# Altium footprint library MAX232DR.PcbLib: 2 footprints
Each footprint in its own frame and in the unit in brackets; x right, y up, seen from the top. Pads: shape width x height; smd on the part's side, far side on the other; paste and mask are expansions set on the pad; w line width, h text height; cw(c..) or ccw(c..) is an arc to the next point about the centre after c.
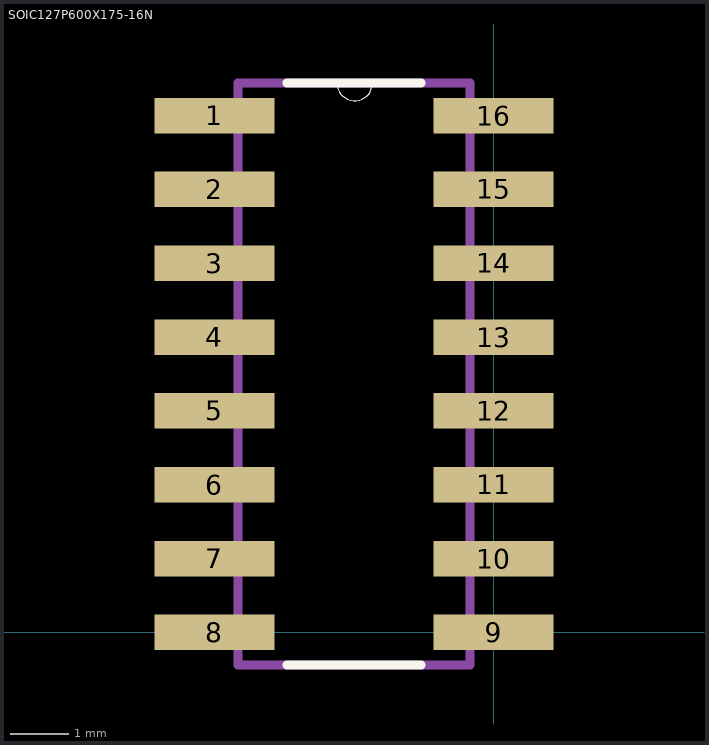
[diagram p0: the footprints below, top view; thin cyan lines are the x and y axes]

## PCBComponent_1 [mil]

## SOIC127P600X175-16N [mil]
pads (16):
  rect 81x24 smd: 1(-189,350) 2(-189,300) 3(-189,250) 4(-189,200) 5(-189,150) 6(-189,100) 7(-189,50) 8(-189,0) 9(0,0) 10(0,50) 11(0,100) 12(0,150) 13(0,200) 14(0,250) 15(0,300) 16(0,350)
Top Overlay:
  lines w0: -106,372 ccw(c-94,372) -82,372
  lines w6: -140,-22 -49,-22 ; -140,372 -106,372 -82,372 -49,372
Mechanical 4:
  lines w0: -106,372 ccw(c-94,372) -82,372 cw(c-94,372) -106,372
  lines w6: -173,-22 -173,372 ; -173,-22 -16,-22 ; -173,-22 -173,372 ; -173,-22 -16,-22 ; -173,372 -106,372 ; -173,372 -106,372 ; -106,372 -82,372 ; -106,372 -82,372 ; -82,372 -16,372 ; -82,372 -16,372 ; -16,-22 -16,372 ; -16,-22 -16,372 ; -189,0 -173,0 -189,0 ; -189,50 -173,50 -189,50 ; -189,100 -173,100 -189,100 ; -189,150 -173,150 -189,150 ; -189,200 -173,200 -189,200 ; -189,250 -173,250 -189,250 ; -189,300 -173,300 -189,300 ; -189,350 -173,350 -189,350 ; -16,0 0,0 -16,0 ; -16,50 0,50 -16,50 ; -16,100 0,100 -16,100 ; -16,150 0,150 -16,150 ; -16,200 0,200 -16,200 ; -16,250 0,250 -16,250 ; -16,300 0,300 -16,300 ; -16,350 0,350 -16,350